# EAGLE library part USB4110 (library HyTechDevices)
USB4110 USB-C Conenctor Datasheet <https://gct.co/Files/Drawings/USB4110.pdf?v=9c3521e1-ea1e-4753-bd59-adae5023b7f4>
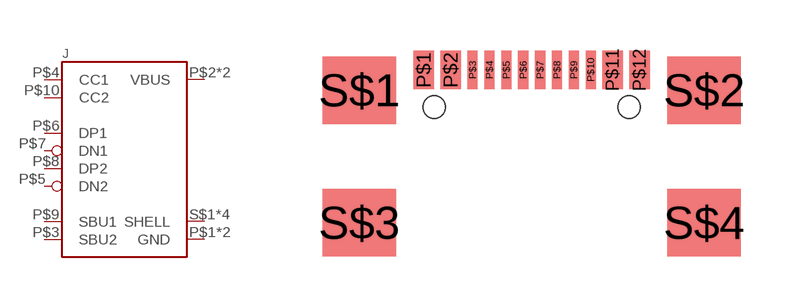
[diagram p67: symbol with the pads of USB4110; footprint USB4110]

Designator prefix J

## USB4110 (DKPN: 2073-USB4110-GF-A-1-ND; MANUFACTURER: GCT; MOPN: 640-USB4110-GF-A; MPN: USB4110)  [USB4110]
P$1  GND  pwr
P$2  VBUS  pwr
P$3  SBU2
P$4  CC1  pas
P$5  DN2
P$6  DP1
P$7  DN1
P$8  DP2
P$9  SBU1
P$10  CC2  pas
P$11  VBUS  pwr
P$12  GND  pwr
S$1  SHELL  pwr
S$2  SHELL  pwr
S$3  SHELL  pwr
S$4  SHELL  pwr

## Footprint USB4110 (pad centres in mm)
USB4110 Datasheet <https://gct.co/Files/Drawings/USB4110.pdf?v=9c3521e1-ea1e-4753-bd59-adae5023b7f4>
smd 0.6 x 1.15: P$1 -3.2,0.6; P$2 -2.4,0.6; P$11 2.4,0.6; P$12 3.2,0.6
smd 0.3 x 1.15: P$3 -1.75,0.6; P$4 -1.25,0.6; P$5 -0.75,0.6; P$6 -0.25,0.6; P$7 0.25,0.6; P$8 0.75,0.6; P$9 1.25,0.6; P$10 1.75,0.6
smd 2.18 x 2: S$1 -5.11,0; S$2 5.11,0; S$3 -5.11,-3.93; S$4 5.11,-3.93
hole 0.65 at -2.89,-0.5
hole 0.65 at 2.89,-0.5